# Altium schematic symbol library LEDProject.SchLib: 1 symbol
Pins are listed as number, name and electrical type; pins without a type are passive.

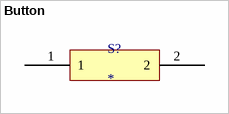
[diagram p0: symbol Button]

## Button
designator S?
pins: 1, 2